# Altium schematic symbol library FreescaleMMA7660FCR1.SchLib: 1 symbol
Pins are listed as number, name and electrical type; pins without a type are passive.

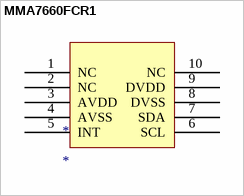
[diagram p0: symbol MMA7660FCR1]

## MMA7660FCR1
designator *
footprint DFN-10__MMA7660FCR1 (DFN, 10-Leads, Body 3.0x3.0mm (max), Pitch 0.50mm, IPC Medium Density)
pins: 1 NC, 2 NC, 3 AVDD, 4 AVSS, 5 INT, 6 SCL, 7 SDA, 8 DVSS, 9 DVDD, 10 NC